# EAGLE library part DISPLAY (library DISPLAY)
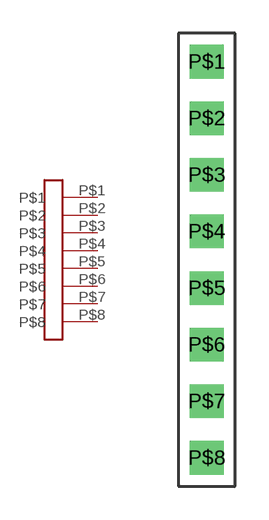
[diagram p0: symbol with the pads of DISPLAY; footprint DISPLAY]

Designator prefix DISPLAY

## DISPLAY  [DISPLAY]
P$1  P$1
P$2  P$2
P$3  P$3
P$4  P$4
P$5  P$5
P$6  P$6
P$7  P$7
P$8  P$8

## Footprint DISPLAY (pad centres in mm)
drill 1 square: P$1 0,7.62; P$2 0,5.08; P$3 0,2.54; P$4 0,0; P$5 0,-2.54; P$6 0,-5.08; P$7 0,-7.62; P$8 0,-10.16